# Altium schematic symbol library Schlib1.SchLib: 2 symbols
Pins are listed as number, name and electrical type; pins without a type are passive.

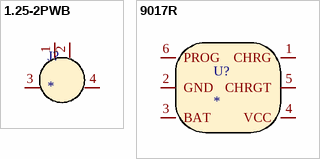
[diagram p0: symbols 1.25-2PWB to 9017R]

## 1.25-2PWB
designator J?
pins: 1, 2, 3, 4

## 9017R
designator U?
pins: 1 CHRG, 2 GND, 3 BAT, 4 VCC, 5 CHRGT, 6 PROG